# Altium schematic symbol library Schlib1.SchLib: 1 symbol
Pins are listed as number, name and electrical type; pins without a type are passive.

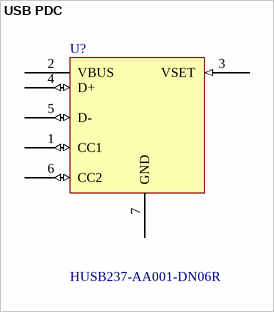
[diagram p0: symbol USB PDC]

## USB PDC
designator U?  Manufacture Part no: HUSB237-AA001-DN06R  (hidden comment: *)
/ Power Receiver Controller 100W DFN-6L-EP(2x2) Power Management - Specialized RoHS; Manufacture: Hynetek; ComponentLink1Description: Datasheet; ComponentLink1URL: https://www.lcsc.com/datasheet/C22373734.pdf?spm=wm.sxq.inf.ggs&lcsc_vid=TgVXBQIERVhWAQVWQFRfUlMCQQcPBlQFRABYU1YDE1cxVlNRQVhcUlBVR1VZVjsOAxUeFF5JWBYZEEoKFBINSQcJGk4dAgUUFAk%3D; ComponentLink2Description: Product Link; ComponentLink2URL: https://www.lcsc.com/product-detail/C22373734.html; LCSC Part: C22373734
pins: 1 CC1 (io), 2 VBUS (power), 3 VSET (in), 4 D+ (io), 5 D- (io), 6 CC2 (io), 7 GND (power)